# Altium footprint library PcbLib1.PcbLib: 1 footprints
Each footprint in its own frame and in the unit in brackets; x right, y up, seen from the top. Pads: shape width x height; smd on the part's side, far side on the other; paste and mask are expansions set on the pad; w line width, h text height; cw(c..) or ccw(c..) is an arc to the next point about the centre after c.
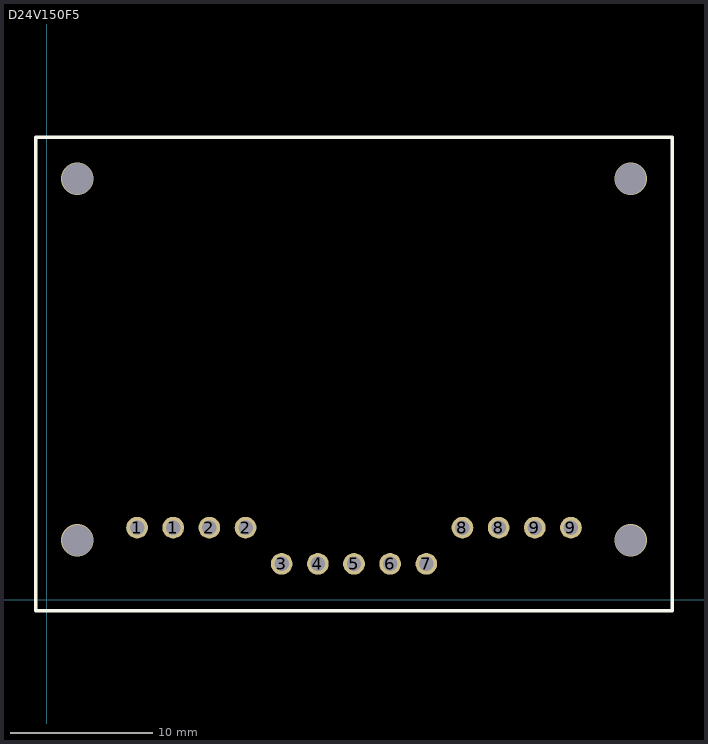
[diagram p0: the footprint, top view; thin cyan lines are the x and y axes]

## D24V150F5 [mil] "PS*"
height 448
pads (13):
  round 60 hole 40: 1(250,200) 1(350,200) 2(450,200) 2(550,200) 3(650,100) 4(750,100) 5(850,100) 6(950,100) 7(1050,100) 8(1150,200) 8(1250,200) 9(1350,200) 9(1450,200)
via 85,1165 diameter 90 hole 86
via 1615,1165 diameter 90 hole 86
via 1615,165 diameter 90 hole 86
via 85,165 diameter 90 hole 86
Top Overlay:
  lines w10: -30,-30 1730,-30 1730,1280 -30,1280 -30,-30
3D body "d24v150fx-step-down-voltage-regulator.step": height 447.77, standoff 0.13, extent 0,0 1700,1250